# Altium schematic symbol library TRANS-EN-GSD.SCHLIB: 1 symbol
Pins are listed as number, name and electrical type; pins without a type are passive.

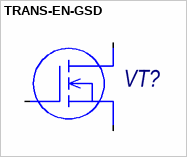
[diagram p0: symbol TRANS-EN-GSD]

## TRANS-EN-GSD
designator VT?
MOSFET
pins: 1 G, 2 S, 3 D